# Altium schematic symbol library SCH_Switch.SchLib: 8 symbols
Pins are listed as number, name and electrical type; pins without a type are passive.

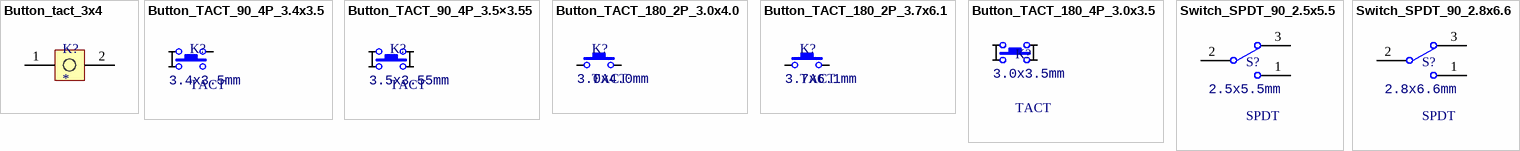
[diagram p0: symbols Button_tact_3x4 to Switch_SPDT_90_2.8x6.6]

## Button_tact_3x4
designator K?
Button
footprint BUTTON_TACT_3x4 (BUTTON_TACT)
footprint BUTTON_TACT_3x4 (BUTTON_TACT)
pins: 1, 2

## Button_TACT_90_4P_3.4x3.5
designator K?, comment TACT  Specification: 3.4x3.5mm
Button; Value: 4P; Type: TACT; Link: *; Datasheet: *; Manufacturer: *; Note: *
footprint Button_TACT_90_4P_3.4x3.5
footprint Button_TACT_90_4P_3.4x3.5_H
pins: 1, 2, 3

## Button_TACT_90_4P_3.5×3.55
designator K?, comment TACT  Specification: 3.5x3.55mm
Button; Manufacturer: Alps Alpine; Value: 4P; Type: TACT; Link: https://www.mouser.tw/ProductDetail/?qs=6EGMNY9ZYDQWpz3nhZNkIQ%3D%3D; Datasheet: https://tech.alpsalpine.com/prod/e/html/tact/surfacemount/sksc/sksclde010.html; Note: *
footprint Button_TACT_90_4P_3.5x3.55
footprint Button_TACT_90_4P_3.5x3.55_H
pins: 1, 2, 3, 4

## Button_TACT_180_2P_3.0x4.0
designator K?, comment TACT  Specification: 3.0x4.0mm
Button; Value: 2P; Type: TACT; Link: *; Datasheet: *; Manufacturer: *; Note: *
footprint Button_TACT_180_2P_3.0x4.0
pins: 1, 2

## Button_TACT_180_2P_3.7x6.1
designator K?, comment TACT  Specification: 3.7x6.1mm
Button; Value: 2P; Type: TACT; Link: *; Datasheet: *; Manufacturer: *; Note: *
footprint Button_TACT_180_2P_3.7x6.1
pins: 1, 2

## Button_TACT_180_4P_3.0x3.5
designator K?, comment TACT  Specification: 3.0x3.5mm
Button; Value: 4P; Type: TACT; Link: *; Datasheet: *; Manufacturer: *; Note: *
footprint Button_TACT_180_4P_3.0x3.5
footprint Button_TACT_180_4P_3.3x3.3
pins: 1, 2, 3, 4

## Switch_SPDT_90_2.5x5.5
designator S?, comment SPDT  Specification: 2.5x5.5mm
Switch; Manufacturer: Alps Alpine; Value: 3P; Type: SPDT; Link: https://www.mouser.tw/ProductDetail/Alps-Alpine/SSAJ110100?qs=35GPJvxY%252Bl7i4HLNNvKQzg%3D%3D; Datasheet: https://tech.alpsalpine.com/prod/e/html/switch/slide/ssaj/ssaj110100.html; Note: *
footprint Switch_SPDT_90_3P_2.5x5.5
footprint Switch_SPDT_90_3P_2.5x5.5_H
pins: 1, 2, 3

## Switch_SPDT_90_2.8x6.6
designator S?, comment SPDT  Specification: 2.8x6.6mm
Switch; Value: 3P; Type: SPDT; Link: *; Datasheet: *; Manufacturer: *; Note: *
footprint Switch_SPDT_90_3P_2.8X6.6
footprint Switch_SPDT_90_3P_2.8X6.6_H
pins: 1, 2, 3